# EAGLE library part CON_02X08 (library PP_Connectors)
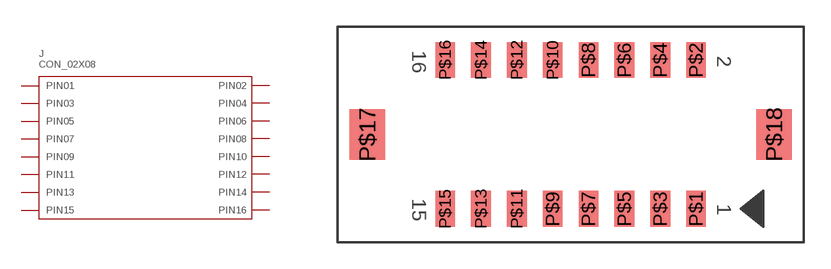
[diagram p35: symbol with the pads of DF11G-16DP-2V(50); footprint DF11G-16DP-2V(50)]

Designator prefix J

## CON_02X08_DF11G-16DP-2V(50)  [DF11G-16DP-2V(50)]
P$1  1
P$2  2
P$3  3
P$4  4
P$5  5
P$6  6
P$7  7
P$8  8
P$9  9
P$10  10
P$11  11
P$12  12
P$13  13
P$14  14
P$15  15
P$16  16

## Footprint DF11G-16DP-2V(50) (pad centres in mm)
smd 1.1 x 2: P$1 7,-4.15; P$2 7,4.15; P$3 5,-4.15; P$4 5,4.15; P$5 3,-4.15; P$6 3,4.15; P$7 1,-4.15; P$8 1,4.15; P$9 -1,-4.15; P$10 -1,4.15; P$11 -3,-4.15; P$12 -3,4.15; P$13 -5,-4.15; P$14 -5,4.15; P$15 -7,-4.15; P$16 -7,4.15
smd 2 x 2.8: P$17 -11.35,0; P$18 11.35,0